# Altium footprint library D2PAK-3_HV.PcbLib: 1 footprints
Each footprint in its own frame and in the unit in brackets; x right, y up, seen from the top. Pads: shape width x height; smd on the part's side, far side on the other; paste and mask are expansions set on the pad; w line width, h text height; cw(c..) or ccw(c..) is an arc to the next point about the centre after c.
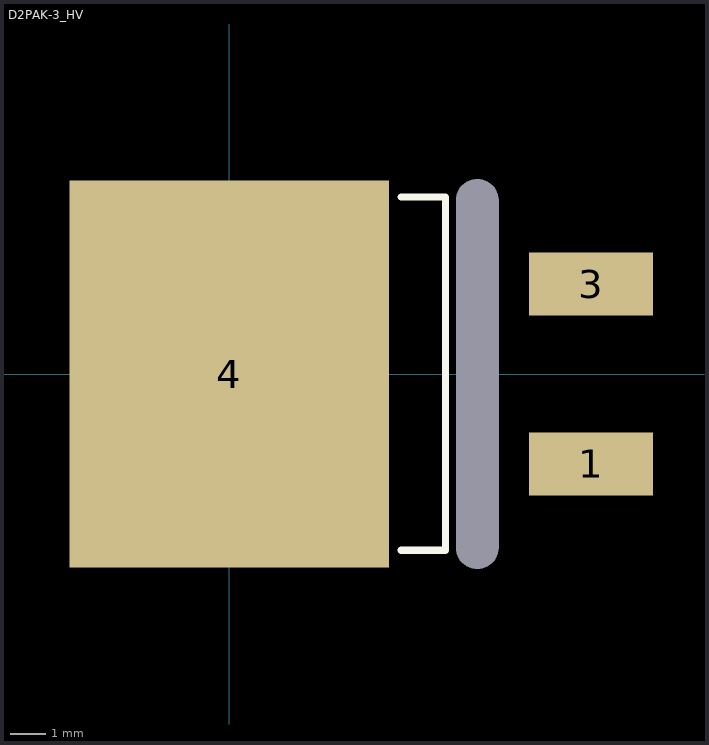
[diagram p0: the footprint, top view; thin cyan lines are the x and y axes]

## D2PAK-3_HV [mm] "High Voltage D2PAK"
pads (4):
  round 0 hole 1.2 slot 11 at 90 deg unplated: 0(7,0)
  rect 3.504x1.78 smd: 1(10.213,-2.54) 3(10.213,2.54)
  rect 9.02x10.92 smd: 4(0,0)
Top Overlay:
  lines w0.2: 4.85,-4.975 6.1,-4.975 6.1,5 4.85,5
3D body: height 1.25, standoff 0, extent -4,-5 -3.3,5
3D body "TO263-2-1.stp": height 4.22, standoff 0, extent -3.841,-4.861 10.744,4.961